# Altium schematic symbol library WE-TORPFC.SchLib: 18 symbols
Pins are listed as number, name and electrical type; pins without a type are passive.

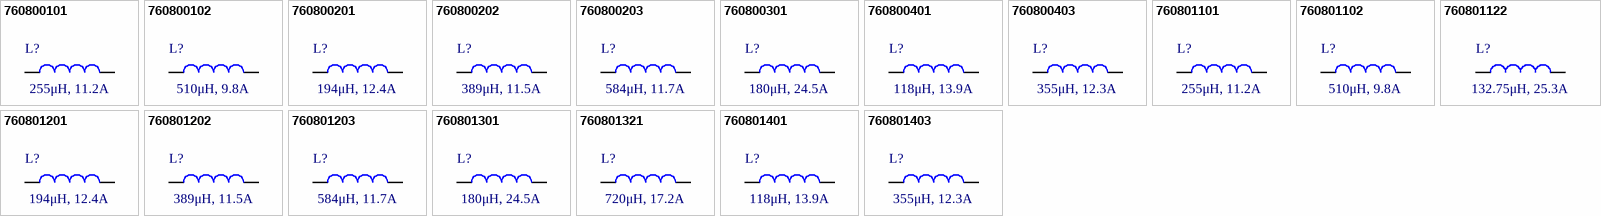
[diagram p0: symbols 760800101 to 760801403]

## 760800101
designator L?, comment 255μH, 11.2A
WE-TORPFC Toroidal PFC Choke, size T43, 255μH, 11.2A; Manufacturer Part Number: 760800101; Manufacturer: Wurth Elektronik; DC Resistance Max: 36mΩ; Saturation Current: 10.5A; Category: Power Inductors; Match Code: WE-TORPFC; ComponentLink1Description: Website Link; ComponentLink1URL: https://www.we-online.com/redexpert/article/760800101?ad; ComponentLink2Description: Datasheet Link; ComponentLink2URL: https://www.we-online.com/redexpert/spec/760800101?ad; Mount: Through Hole; Min Operating Temperature: -40°C; Max Operating Temperature: 155°C; Packaging: Tray; Case/Size Code: T43; Height: 34mm; Diameter: 60mm; Inductance: 255μH; Rated Current: 11.2A
footprint WE-TORPFC_T43_D60H34
simulation model TOR43_760800101_255u
pins: 1, 2

## 760800102
designator L?, comment 510μH, 9.8A
WE-TORPFC Toroidal PFC Choke, size T43, 510μH, 9.8A; Manufacturer Part Number: 760800102; Manufacturer: Wurth Elektronik; DC Resistance Max: 55mΩ; Saturation Current: 10.5A; Category: Power Inductors; Match Code: WE-TORPFC; ComponentLink1Description: Website Link; ComponentLink1URL: https://www.we-online.com/redexpert/article/760800102?ad; ComponentLink2Description: Datasheet Link; ComponentLink2URL: https://www.we-online.com/redexpert/spec/760800102?ad; Mount: Through Hole; Min Operating Temperature: -40°C; Max Operating Temperature: 155°C; Packaging: Tray; Case/Size Code: T43; Height: 54.5mm; Diameter: 60mm; Inductance: 510μH; Rated Current: 9.8A
footprint WE-TORPFC_T43_D60H54.5
simulation model TOR43_760800102_510u
pins: 1, 2

## 760800201
designator L?, comment 194μH, 12.4A
WE-TORPFC Toroidal PFC Choke, size T50, 194μH, 12.4A; Manufacturer Part Number: 760800201; Manufacturer: Wurth Elektronik; DC Resistance Max: 40mΩ; Saturation Current: 19A; Category: Power Inductors; Match Code: WE-TORPFC; ComponentLink1Description: Website Link; ComponentLink1URL: https://www.we-online.com/redexpert/article/760800201?ad; ComponentLink2Description: Datasheet Link; ComponentLink2URL: https://www.we-online.com/redexpert/spec/760800201?ad; Mount: Through Hole; Min Operating Temperature: -40°C; Max Operating Temperature: 155°C; Packaging: Tray; Case/Size Code: T50; Height: 31mm; Diameter: 72mm; Inductance: 194μH; Rated Current: 12.4A
footprint WE-TORPFC_T50_D72H31
simulation model TOR50_760800201_194u
pins: 1, 2

## 760800202
designator L?, comment 389μH, 11.5A
WE-TORPFC Toroidal PFC Choke, size T50, 389μH, 11.5A; Manufacturer Part Number: 760800202; Manufacturer: Wurth Elektronik; DC Resistance Max: 50mΩ; Saturation Current: 19A; Category: Power Inductors; Match Code: WE-TORPFC; ComponentLink1Description: Website Link; ComponentLink1URL: https://www.we-online.com/redexpert/article/760800202?ad; ComponentLink2Description: Datasheet Link; ComponentLink2URL: https://www.we-online.com/redexpert/spec/760800202?ad; Mount: Through Hole; Min Operating Temperature: -40°C; Max Operating Temperature: 155°C; Packaging: Tray; Case/Size Code: T50; Height: 45mm; Diameter: 72mm; Inductance: 389μH; Rated Current: 11.5A
footprint WE-TORPFC_T50_D72H45
simulation model TOR50_760800202_389u
pins: 1, 2

## 760800203
designator L?, comment 584μH, 11.7A
WE-TORPFC Toroidal PFC Choke, size T50, 584μH, 11.7A; Manufacturer Part Number: 760800203; Manufacturer: Wurth Elektronik; DC Resistance Max: 65mΩ; Saturation Current: 19A; Category: Power Inductors; Match Code: WE-TORPFC; ComponentLink1Description: Website Link; ComponentLink1URL: https://www.we-online.com/redexpert/article/760800203?ad; ComponentLink2Description: Datasheet Link; ComponentLink2URL: https://www.we-online.com/redexpert/spec/760800203?ad; Mount: Through Hole; Min Operating Temperature: -40°C; Max Operating Temperature: 155°C; Packaging: Tray; Case/Size Code: T50; Height: 60mm; Diameter: 72mm; Inductance: 584μH; Rated Current: 11.7A
footprint WE-TORPFC_T50_D72H60
simulation model TOR50_760800203_584u
pins: 1, 2

## 760800301
designator L?, comment 180μH, 24.5A
WE-TORPFC Toroidal PFC Choke, size T75, 180μH, 24.5A; Manufacturer Part Number: 760800301; Manufacturer: Wurth Elektronik; DC Resistance Max: 20mΩ; Saturation Current: 43A; Category: Power Inductors; Match Code: WE-TORPFC; ComponentLink1Description: Website Link; ComponentLink1URL: https://www.we-online.com/redexpert/article/760800301?ad; ComponentLink2Description: Datasheet Link; ComponentLink2URL: https://www.we-online.com/redexpert/spec/760800301?ad; Mount: Through Hole; Min Operating Temperature: -40°C; Max Operating Temperature: 155°C; Packaging: Tray; Case/Size Code: T75; Height: 62mm; Diameter: 99mm; Inductance: 180μH; Rated Current: 24.5A
footprint WE-TORPFC_T75_D99H62
simulation model TOR75_760800301_180u
pins: 1, 2

## 760800401
designator L?, comment 118μH, 13.9A
WE-TORPFC Toroidal PFC Choke, size T37, 118μH, 13.9A; Manufacturer Part Number: 760800401; Manufacturer: Wurth Elektronik; DC Resistance Max: 22mΩ; Saturation Current: 9.5A; Category: Power Inductors; Match Code: WE-TORPFC; ComponentLink1Description: Website Link; ComponentLink1URL: https://www.we-online.com/redexpert/article/760800401?ad; ComponentLink2Description: Datasheet Link; ComponentLink2URL: https://www.we-online.com/redexpert/spec/760800401?ad; Mount: Through Hole; Min Operating Temperature: -40°C; Max Operating Temperature: 155°C; Packaging: Tray; Case/Size Code: T37; Height: 28mm; Diameter: 53mm; Inductance: 118μH; Rated Current: 13.9A
footprint WE-TORPFC_T37_D53H28
simulation model TOR37_760800401_118u
pins: 1, 2

## 760800403
designator L?, comment 355μH, 12.3A
WE-TORPFC Toroidal PFC Choke, size T37, 355μH, 12.3A; Manufacturer Part Number: 760800403; Manufacturer: Wurth Elektronik; DC Resistance Max: 35mΩ; Saturation Current: 9.5A; Category: Power Inductors; Match Code: WE-TORPFC; ComponentLink1Description: Website Link; ComponentLink1URL: https://www.we-online.com/redexpert/article/760800403?ad; ComponentLink2Description: Datasheet Link; ComponentLink2URL: https://www.we-online.com/redexpert/spec/760800403?ad; Mount: Through Hole; Min Operating Temperature: -40°C; Max Operating Temperature: 155°C; Packaging: Tray; Case/Size Code: T37; Height: 50mm; Diameter: 53mm; Inductance: 355μH; Rated Current: 12.3A
footprint WE-TORPFC_T37_D53H50
simulation model TOR37_760800403_355u
pins: 1, 2

## 760801101
designator L?, comment 255μH, 11.2A
WE-TORPFC Toroidal PFC Choke, size T43, 255μH, 11.2A; Manufacturer Part Number: 760801101; Manufacturer: Wurth Elektronik; DC Resistance Max: 36mΩ; Saturation Current: 24A; Category: Power Inductors; Match Code: WE-TORPFC; ComponentLink1Description: Website Link; ComponentLink1URL: https://www.we-online.com/redexpert/article/760801101?ad; ComponentLink2Description: Datasheet Link; ComponentLink2URL: https://www.we-online.com/redexpert/spec/760801101?ad; Mount: Through Hole; Min Operating Temperature: -40°C; Max Operating Temperature: 155°C; Packaging: Tray; Case/Size Code: T43; Height: 34mm; Diameter: 60mm; Inductance: 255μH; Rated Current: 11.2A
footprint WE-TORPFC_T43_D60H34
simulation model TOR43_760801101_255u
pins: 1, 2

## 760801102
designator L?, comment 510μH, 9.8A
WE-TORPFC Toroidal PFC Choke, size T43, 510μH, 9.8A; Manufacturer Part Number: 760801102; Manufacturer: Wurth Elektronik; DC Resistance Max: 55mΩ; Saturation Current: 24A; Category: Power Inductors; Match Code: WE-TORPFC; ComponentLink1Description: Website Link; ComponentLink1URL: https://www.we-online.com/redexpert/article/760801102?ad; ComponentLink2Description: Datasheet Link; ComponentLink2URL: https://www.we-online.com/redexpert/spec/760801102?ad; Mount: Through Hole; Min Operating Temperature: -40°C; Max Operating Temperature: 155°C; Packaging: Tray; Case/Size Code: T43; Height: 54.5mm; Diameter: 60mm; Inductance: 510μH; Rated Current: 9.8A
footprint WE-TORPFC_T43_D60H54.5
simulation model TOR43_760801102_510u
pins: 1, 2

## 760801122
designator L?, comment 132.75μH, 25.3A
WE-TORPFC Toroidal PFC Choke, size T43, 132.75μH, 25.3A; Manufacturer Part Number: 760801122; Manufacturer: Wurth Elektronik; DC Resistance Max: 14mΩ; Saturation Current: 45A; Category: Power Inductors; Match Code: WE-TORPFC; ComponentLink1Description: Website Link; ComponentLink1URL: https://www.we-online.com/redexpert/article/760801122?ad; ComponentLink2Description: Datasheet Link; ComponentLink2URL: https://www.we-online.com/redexpert/spec/760801122?ad; Mount: Through Hole; Min Operating Temperature: -40°C; Max Operating Temperature: 155°C; Packaging: Tray; Case/Size Code: T43; Height: 54.5mm; Diameter: 60mm; Inductance: 132.75μH; Rated Current: 25.3A
footprint WE-TORPFC_T43_D60H54.5
pins: 1, 2

## 760801201
designator L?, comment 194μH, 12.4A
WE-TORPFC Toroidal PFC Choke, size T50, 194μH, 12.4A; Manufacturer Part Number: 760801201; Manufacturer: Wurth Elektronik; DC Resistance Max: 40mΩ; Saturation Current: 37A; Category: Power Inductors; Match Code: WE-TORPFC; ComponentLink1Description: Website Link; ComponentLink1URL: https://www.we-online.com/redexpert/article/760801201?ad; ComponentLink2Description: Datasheet Link; ComponentLink2URL: https://www.we-online.com/redexpert/spec/760801201?ad; Mount: Through Hole; Min Operating Temperature: -40°C; Max Operating Temperature: 155°C; Packaging: Tray; Case/Size Code: T50; Height: 31mm; Diameter: 72mm; Inductance: 194μH; Rated Current: 12.4A
footprint WE-TORPFC_T50_D72H31
simulation model TOR50_760801201_194u
pins: 1, 2

## 760801202
designator L?, comment 389μH, 11.5A
WE-TORPFC Toroidal PFC Choke, size T50, 389μH, 11.5A; Manufacturer Part Number: 760801202; Manufacturer: Wurth Elektronik; DC Resistance Max: 50mΩ; Saturation Current: 37A; Category: Power Inductors; Match Code: WE-TORPFC; ComponentLink1Description: Website Link; ComponentLink1URL: https://www.we-online.com/redexpert/article/760801202?ad; ComponentLink2Description: Datasheet Link; ComponentLink2URL: https://www.we-online.com/redexpert/spec/760801202?ad; Mount: Through Hole; Min Operating Temperature: -40°C; Max Operating Temperature: 155°C; Packaging: Tray; Case/Size Code: T50; Height: 45mm; Diameter: 72mm; Inductance: 389μH; Rated Current: 11.5A
footprint WE-TORPFC_T50_D72H45
simulation model TOR50_760801202_389u
pins: 1, 2

## 760801203
designator L?, comment 584μH, 11.7A
WE-TORPFC Toroidal PFC Choke, size T50, 584μH, 11.7A; Manufacturer Part Number: 760801203; Manufacturer: Wurth Elektronik; DC Resistance Max: 65mΩ; Saturation Current: 37A; Category: Power Inductors; Match Code: WE-TORPFC; ComponentLink1Description: Website Link; ComponentLink1URL: https://www.we-online.com/redexpert/article/760801203?ad; ComponentLink2Description: Datasheet Link; ComponentLink2URL: https://www.we-online.com/redexpert/spec/760801203?ad; Mount: Through Hole; Min Operating Temperature: -40°C; Max Operating Temperature: 155°C; Packaging: Tray; Case/Size Code: T50; Height: 60mm; Diameter: 72mm; Inductance: 584μH; Rated Current: 11.7A
footprint WE-TORPFC_T50_D72H60
simulation model TOR50_760801203_584u
pins: 1, 2

## 760801301
designator L?, comment 180μH, 24.5A
WE-TORPFC Toroidal PFC Choke, size T75, 180μH, 24.5A; Manufacturer Part Number: 760801301; Manufacturer: Wurth Elektronik; DC Resistance Max: 20mΩ; Saturation Current: 105A; Category: Power Inductors; Match Code: WE-TORPFC; ComponentLink1Description: Website Link; ComponentLink1URL: https://www.we-online.com/redexpert/article/760801301?ad; ComponentLink2Description: Datasheet Link; ComponentLink2URL: https://www.we-online.com/redexpert/spec/760801301?ad; Mount: Through Hole; Min Operating Temperature: -40°C; Max Operating Temperature: 155°C; Packaging: Tray; Case/Size Code: T75; Height: 62mm; Diameter: 99mm; Inductance: 180μH; Rated Current: 24.5A
footprint WE-TORPFC_T75_D99H62
simulation model TOR75_760801301_180u
pins: 1, 2

## 760801321
designator L?, comment 720μH, 17.2A
WE-TORPFC Toroidal PFC Choke, size T75, 720μH, 17.2A; Manufacturer Part Number: 760801321; Manufacturer: Wurth Elektronik; DC Resistance Max: 42mΩ; Saturation Current: 38A; Category: Power Inductors; Match Code: WE-TORPFC; ComponentLink1Description: Website Link; ComponentLink1URL: https://www.we-online.com/redexpert/article/760801321?ad; ComponentLink2Description: Datasheet Link; ComponentLink2URL: https://www.we-online.com/redexpert/spec/760801321?ad; Mount: Through Hole; Min Operating Temperature: -40°C; Max Operating Temperature: 155°C; Packaging: Tray; Case/Size Code: T75; Height: 62mm; Diameter: 99mm; Inductance: 720μH; Rated Current: 17.2A
footprint WE-TORPFC_T75_D99H62
simulation model TOR75_760801321_720u
pins: 1, 2

## 760801401
designator L?, comment 118μH, 13.9A
WE-TORPFC Toroidal PFC Choke, size T37, 118μH, 13.9A; Manufacturer Part Number: 760801401; Manufacturer: Wurth Elektronik; DC Resistance Max: 22mΩ; Saturation Current: 23A; Category: Power Inductors; Match Code: WE-TORPFC; ComponentLink1Description: Website Link; ComponentLink1URL: https://www.we-online.com/redexpert/article/760801401?ad; ComponentLink2Description: Datasheet Link; ComponentLink2URL: https://www.we-online.com/redexpert/spec/760801401?ad; Mount: Through Hole; Min Operating Temperature: -40°C; Max Operating Temperature: 155°C; Packaging: Tray; Case/Size Code: T37; Height: 28mm; Diameter: 53mm; Inductance: 118μH; Rated Current: 13.9A
footprint WE-TORPFC_T37_D53H28
simulation model TOR37_760801401_118u
pins: 1, 2

## 760801403
designator L?, comment 355μH, 12.3A
WE-TORPFC Toroidal PFC Choke, size T37, 355μH, 12.3A; Manufacturer Part Number: 760801403; Manufacturer: Wurth Elektronik; DC Resistance Max: 35mΩ; Saturation Current: 23A; Category: Power Inductors; Match Code: WE-TORPFC; ComponentLink1Description: Website Link; ComponentLink1URL: https://www.we-online.com/redexpert/article/760801403?ad; ComponentLink2Description: Datasheet Link; ComponentLink2URL: https://www.we-online.com/redexpert/spec/760801403?ad; Mount: Through Hole; Min Operating Temperature: -40°C; Max Operating Temperature: 155°C; Packaging: Tray; Case/Size Code: T37; Height: 50mm; Diameter: 53mm; Inductance: 355μH; Rated Current: 12.3A
footprint WE-TORPFC_T37_D53H50
simulation model TOR37_760801403_355u
pins: 1, 2